# Altium schematic symbol library Pollux III.SchLib: 50 symbols
Pins are listed as number, name and electrical type; pins without a type are passive.

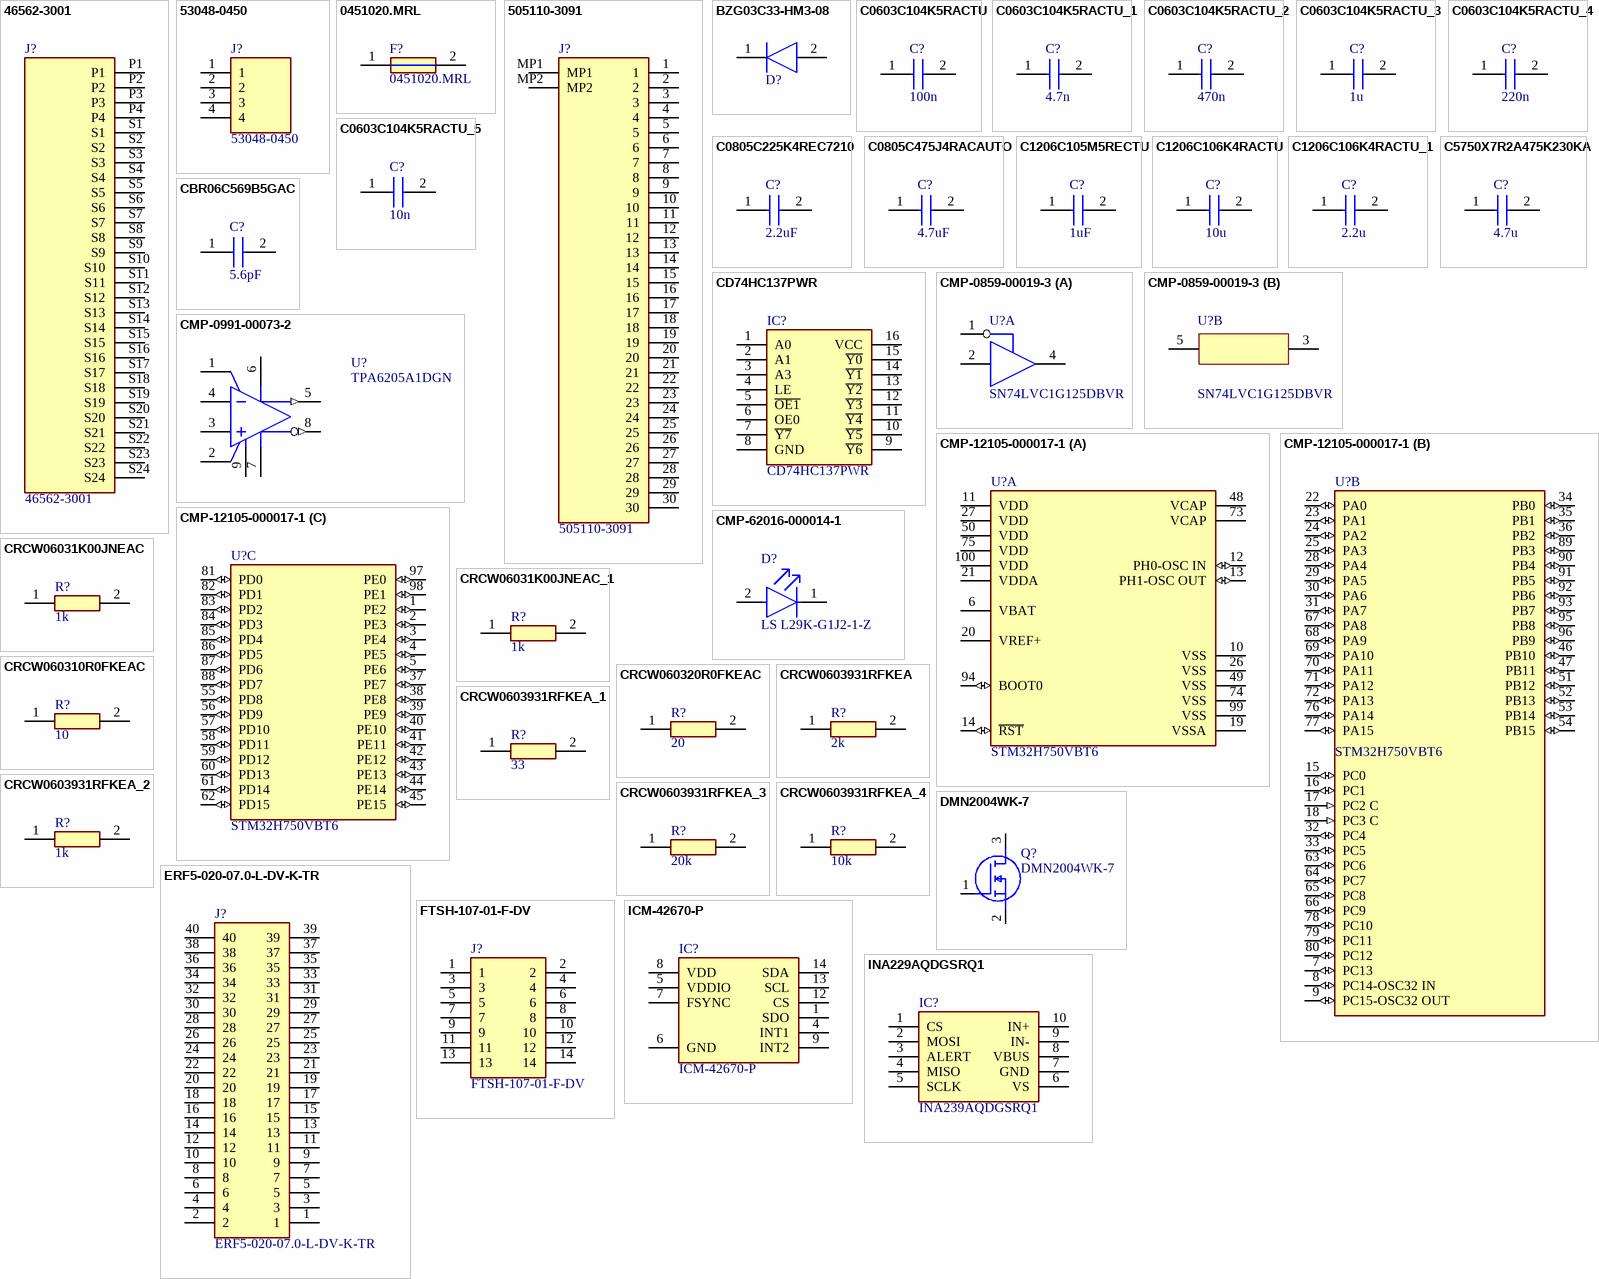
[diagram p0: symbols 46562-3001 to INA229AQDGSRQ1]

## 46562-3001
designator J?
Connector
footprint 465623001
pins: P1, P2, P3, P4, S1, S2, S3, S4, S5, S6, S7, S8, S9, S10, S11, S12, S13, S14, S15, S16, S17, S18, S19, S20, S21, S22, S23, S24

## 53048-0450
designator J?
Connector; Manufacturer_Name: Molex; Datasheet Link: https://www.molex.com/pdm_docs/sd/530480450_sd.pdf; Height: 3.5mm; Manufacturer_Part_Number: 53048-0450; Mouser Part Number: 538-53048-0450; Mouser Price/Stock: https://www.mouser.co.uk/ProductDetail/Molex/53048-0450?qs=0lSvoLzn4L%252Bhzo05ywM78Q%3D%3D
footprint SHDRRA4W35P0X125_1X4_675X550X350P
pins: 1, 2, 3, 4

## 0451020.MRL
designator F?
Fuse; Manufacturer_Name: LITTELFUSE; Datasheet Link: https://m.littelfuse.com/~/media/electronics/datasheets/fuses/littelfuse_fuse_451_453_datasheet.pdf.pdf; Height: 2.94mm; Manufacturer_Part_Number: 0451020.MRL; Mouser Part Number: 576-0451020.MRL; Mouser Price/Stock: https://www.mouser.co.uk/ProductDetail/Littelfuse/0451020MRL?qs=ZaMXuU%252B6JZZbQqgd%2F3uvYw%3D%3D; Arrow Part Number: 0451020.MRL; Arrow Price/Stock: https://www.arrow.com/en/products/0451020.mrl/littelfuse
footprint FUSC6127X294N
pins: 1, 2

## 505110-3091
designator J?
Connector; Manufacturer_Name: Molex; Datasheet Link: https://www.molex.com/pdm_docs/sd/5051103091_sd.pdf; Height: 2.1mm; Manufacturer_Part_Number: 505110-3091; Mouser Part Number: 538-505110-3091; Mouser Price/Stock: https://www.mouser.co.uk/ProductDetail/Molex/505110-3091?qs=fSIr1QPo%2F%2FSZ9fkf9Qvqqg%3D%3D
footprint 5051103091
pins: 1, 2, 3, 4, 5, 6, 7, 8, 9, 10, 11, 12, 13, 14, 15, 16, 17, 18, 19, 20, 21, 22, 23, 24, 25, 26, 27, 28, 29, 30, MP1, MP2

## BZG03C33-HM3-08
designator D?  (value not drawn)
Diode; Manufacturer_Name: Vishay; Datasheet Link: https://www.arrow.com/en/products/bzg03c33-hm3-08/vishay; Height: 2.29mm; Manufacturer_Part_Number: BZG03C33-HM3-08; Mouser Part Number: 78-BZG03C33-HM3-08; Mouser Price/Stock: https://www.mouser.co.uk/ProductDetail/Vishay-Semiconductors/BZG03C33-HM3-08?qs=j%252B1pi9TdxUbhV%2FXINkfeTw%3D%3D; Arrow Part Number: BZG03C33-HM3-08; Arrow Price/Stock: https://www.arrow.com/en/products/bzg03c33-hm3-08/vishay
footprint DIOM5127X229N
pins: 1 K, 2 A

## C0603C104K5RACTU
designator C?  value 100n  (hidden comment: C0603C104K5RACTU)
Capacitor; Manufacturer_Name: Kemet; Datasheet Link: http://www.farnell.com/datasheets/2205446.pdf; Height: 0.95mm; Manufacturer_Part_Number: C0603C104K5RACTU; Mouser Part Number: 80-C0603C104K5R; Mouser Price/Stock: https://www.mouser.co.uk/ProductDetail/KEMET/C0603C104K5RACTU?qs=l5k%252BbMnNDkkVcnZPSAaaiQ%3D%3D; Arrow Part Number: C0603C104K5RACTU; Arrow Price/Stock: https://www.arrow.com/en/products/c0603c104k5ractu/kemet-corporation; Supplier 1: Mouser; Supplier Part Number 1: 80-C0603C104K5R
footprint CAPC1608X95N
pins: 1, 2

## C0603C104K5RACTU_1
designator C?, comment value 4.7n  (hidden comment: C0603C104K5RACTU)
Capacitor; Manufacturer_Name: Kemet; Datasheet Link: http://www.farnell.com/datasheets/2205446.pdf; Height: 0.95mm; Manufacturer_Part_Number: C0603C104K5RACTU; Mouser Part Number: 80-C0603C104K5R; Mouser Price/Stock: https://www.mouser.co.uk/ProductDetail/KEMET/C0603C104K5RACTU?qs=l5k%252BbMnNDkkVcnZPSAaaiQ%3D%3D; Arrow Part Number: C0603C104K5RACTU; Arrow Price/Stock: https://www.arrow.com/en/products/c0603c104k5ractu/kemet-corporation; Supplier 1: Mouser; Supplier Part Number 1: 80-C0603C104K5R
footprint CAPC1608X95N
pins: 1, 2

## C0603C104K5RACTU_2
designator C?, comment value 470n  (hidden comment: C0603C104K5RACTU)
Capacitor; Manufacturer_Name: Kemet; Datasheet Link: http://www.farnell.com/datasheets/2205446.pdf; Height: 0.95mm; Manufacturer_Part_Number: C0603C104K5RACTU; Mouser Part Number: 80-C0603C104K5R; Mouser Price/Stock: https://www.mouser.co.uk/ProductDetail/KEMET/C0603C104K5RACTU?qs=l5k%252BbMnNDkkVcnZPSAaaiQ%3D%3D; Arrow Part Number: C0603C104K5RACTU; Arrow Price/Stock: https://www.arrow.com/en/products/c0603c104k5ractu/kemet-corporation; Supplier 1: Mouser; Supplier Part Number 1: 80-C0603C104K5R
footprint CAPC1608X95N
pins: 1, 2

## C0603C104K5RACTU_3
designator C?, comment value 1u  (hidden comment: C0603C104K5RACTU)
Capacitor; Manufacturer_Name: Kemet; Datasheet Link: http://www.farnell.com/datasheets/2205446.pdf; Height: 0.95mm; Manufacturer_Part_Number: C0603C104K5RACTU; Mouser Part Number: 80-C0603C104K5R; Mouser Price/Stock: https://www.mouser.co.uk/ProductDetail/KEMET/C0603C104K5RACTU?qs=l5k%252BbMnNDkkVcnZPSAaaiQ%3D%3D; Arrow Part Number: C0603C104K5RACTU; Arrow Price/Stock: https://www.arrow.com/en/products/c0603c104k5ractu/kemet-corporation; Supplier 1: Mouser; Supplier Part Number 1: 80-C0603C104K5R
footprint CAPC1608X95N
pins: 1, 2

## C0603C104K5RACTU_4
designator C?, comment value 220n  (hidden comment: C0603C104K5RACTU)
Capacitor; Manufacturer_Name: Kemet; Datasheet Link: http://www.farnell.com/datasheets/2205446.pdf; Height: 0.95mm; Manufacturer_Part_Number: C0603C104K5RACTU; Mouser Part Number: 80-C0603C104K5R; Mouser Price/Stock: https://www.mouser.co.uk/ProductDetail/KEMET/C0603C104K5RACTU?qs=l5k%252BbMnNDkkVcnZPSAaaiQ%3D%3D; Arrow Part Number: C0603C104K5RACTU; Arrow Price/Stock: https://www.arrow.com/en/products/c0603c104k5ractu/kemet-corporation; Supplier 1: Mouser; Supplier Part Number 1: 80-C0603C104K5R
footprint CAPC1608X95N
pins: 1, 2

## C0603C104K5RACTU_5
designator C?, comment value 10n  (hidden comment: C0603C104K5RACTU)
Capacitor; Manufacturer_Name: Kemet; Datasheet Link: http://www.farnell.com/datasheets/2205446.pdf; Height: 0.95mm; Manufacturer_Part_Number: C0603C104K5RACTU; Mouser Part Number: 80-C0603C104K5R; Mouser Price/Stock: https://www.mouser.co.uk/ProductDetail/KEMET/C0603C104K5RACTU?qs=l5k%252BbMnNDkkVcnZPSAaaiQ%3D%3D; Arrow Part Number: C0603C104K5RACTU; Arrow Price/Stock: https://www.arrow.com/en/products/c0603c104k5ractu/kemet-corporation; Supplier 1: Mouser; Supplier Part Number 1: 80-C0603C104K5R
footprint CAPC1608X95N
pins: 1, 2

## C0805C225K4REC7210
designator C?  value 2.2uF  (hidden comment: C0805C225K4REC7210)
Capacitor; Manufacturer_Name: Kemet; Datasheet Link: https://content.kemet.com/datasheets/KEM_C1090_X7R_ESD.pdf; Height: 1.4mm; Manufacturer_Part_Number: C0805C225K4REC7210; Mouser Part Number: 80-C0805C225K4RECLR; Mouser Price/Stock: https://www.mouser.co.uk/ProductDetail/KEMET/C0805C225K4REC7210?qs=55YtniHzbhCWJdUu8xFadQ%3D%3D; Supplier 1: Mouser; Supplier Part Number 1: 80-C0805C225K4RECLR
footprint CAPC2012X140N
pins: 1, 2

## C0805C475J4RACAUTO
designator C?, comment value 4.7uF  (hidden comment: C0805C475M4PACTU)
Capacitor; Manufacturer_Name: Kemet; Manufacturer_Part_Number: C0805C475J4RACAUTO; Datasheet Link: https://componentsearchengine.com/Datasheets/1/C0805C475J4RACAUTO.pdf; Height: 1.4mm; Mouser Part Number: 80-C0805C475J4RAUTO; Mouser Price/Stock: https://www.mouser.co.uk/ProductDetail/KEMET/C0805C475J4RACAUTO?qs=HXFqYaX1Q2zgZ196jUXcdQ%3D%3D; Arrow Part Number: C0805C475J4RACAUTO; Arrow Price/Stock: https://www.arrow.com/en/products/c0805c475j4racauto/kemet-corporation; Supplier 1: Mouser; Supplier Part Number 1: 80-C0805C475J4RAUTO
footprint CAPC2012X140N
pins: 1, 2

## C1206C105M5RECTU
designator C?  value 1uF  (hidden comment: C1206C105M5RECTU)
Capacitor; Manufacturer_Name: Kemet; Datasheet Link: https://content.kemet.com/datasheets/KEM_C1090_X7R_ESD.pdf; Height: 1.3mm; Manufacturer_Part_Number: C1206C105M5RECTU; Mouser Part Number: 80-C1206C105M5RECTU; Mouser Price/Stock: https://www.mouser.co.uk/ProductDetail/KEMET/C1206C105M5RECTU?qs=55YtniHzbhBh39CxZCw85g%3D%3D; Arrow Part Number: C1206C105M5RECTU; Arrow Price/Stock: https://www.arrow.com/en/products/c1206c105m5rectu/kemet-corporation; Supplier 1: Mouser; Supplier Part Number 1: 80-C1206C105M5RECTU
footprint CAPC3216X130N
pins: 1, 2

## C1206C106K4RACTU
designator C?  value 10u  (hidden comment: C1206C106K4RACTU)
Capacitor; Manufacturer_Name: Kemet; Datasheet Link: https://content.kemet.com/datasheets/KEM_C1002_X7R_SMD.pdf; Manufacturer_Part_Number: C1206C106K4RACTU; Mouser Part Number: 80-C1206C106K4R; Mouser Price/Stock: https://www.mouser.co.uk/ProductDetail/KEMET/C1206C106K4RACTU?qs=guDyKOyRtV0mxqxQedB7kA%3D%3D; Arrow Part Number: C1206C106K4RACTU; Arrow Price/Stock: https://www.arrow.com/en/products/c1206c106k4ractu/kemet-corporation
footprint C1206
pins: 1, 2

## C1206C106K4RACTU_1
designator C?, comment value 2.2u  (hidden comment: C1206C106K4RACTU)
Capacitor; Manufacturer_Name: Kemet; Datasheet Link: https://content.kemet.com/datasheets/KEM_C1002_X7R_SMD.pdf; Manufacturer_Part_Number: C1206C106K4RACTU; Mouser Part Number: 80-C1206C106K4R; Mouser Price/Stock: https://www.mouser.co.uk/ProductDetail/KEMET/C1206C106K4RACTU?qs=guDyKOyRtV0mxqxQedB7kA%3D%3D; Arrow Part Number: C1206C106K4RACTU; Arrow Price/Stock: https://www.arrow.com/en/products/c1206c106k4ractu/kemet-corporation
footprint C1206
pins: 1, 2

## C5750X7R2A475K230KA
designator C?, comment value 4.7u  (hidden comment: C5750JB2A475M230KA)
Capacitor; Manufacturer_Name: TDK; Manufacturer_Part_Number: C5750X7R2A475K230KA; Datasheet Link: https://product.tdk.com/de/search/capacitor/ceramic/mlcc/info?part_no=C5750X7R2A475K230KA; Height: 3.1mm; Mouser Part Number: 810-C5750X7R2A475K; Mouser Price/Stock: https://www.mouser.co.uk/ProductDetail/TDK/C5750X7R2A475K230KA?qs=NRhsANhppD88FUXESCqIJQ%3D%3D; Arrow Part Number: C5750X7R2A475K230KA; Arrow Price/Stock: https://www.arrow.com/en/products/c5750x7r2a475k230ka/tdk; Supplier 1: Mouser; Supplier Part Number 1: 810-C5750JB2A475M23A
footprint CAPC5750X310N
pins: 1, 2

## CBR06C569B5GAC
designator C?  value 5.6pF  (hidden comment: CBR06C569B5GAC)
Capacitor; Manufacturer_Name: Kemet; Datasheet Link: http://www.kemet.com/Lists/ProductCatalog/Attachments/490/KEM_C1030_CBR_SMD.pdf; Height: 0.87mm; Manufacturer_Part_Number: CBR06C569B5GAC; Mouser Part Number: 80-CBR06C569B5GAC; Mouser Price/Stock: https://www.mouser.co.uk/ProductDetail/KEMET/CBR06C569B5GAC/?qs=8sjaHP9aayqGSwkvsyWeEw%3D%3D; Arrow Part Number: CBR06C569B5GAC; Arrow Price/Stock: https://www.arrow.com/en/products/cbr06c569b5gac/kemet-corporation; Supplier 1: Mouser; Supplier Part Number 1: 80-CBR06C569B5GAC
footprint CAPC1608X87N
pins: 1, 2

## CD74HC137PWR
designator IC?
Integrated Circuit; Manufacturer_Name: Texas Instruments; Datasheet Link: http://www.ti.com/lit/gpn/cd74hc137; Height: 1.2mm; Manufacturer_Part_Number: CD74HC137PWR; Mouser Part Number: 595-CD74HC137PWR; Mouser Price/Stock: https://www.mouser.co.uk/ProductDetail/Texas-Instruments/CD74HC137PWR/?qs=YxwvVplHM%2Fm8ZkoHTCdntQ%3D%3D; Arrow Part Number: CD74HC137PWR; Arrow Price/Stock: https://www.arrow.com/en/products/cd74hc137pwr/texas-instruments
footprint SOP65P640X120-16N
pins: 1 A0, 2 A1, 3 A3, 4 LE, 5 ~{OE1}, 6 OE0, 7 ~{Y7}, 8 GND, 9 ~{Y6}, 10 ~{Y5}, 11 ~{Y4}, 12 ~{Y3}, 13 ~{Y2}, 14 ~{Y1}, 15 ~{Y0}, 16 VCC

## CMP-0859-00019-3
designator U?, comment SN74LVC1G125DBVR
Single Bus Buffer Gate With 3-State Outputs, DBV0005A, LARGE T&R; Manufacturer: Texas Instruments; VCC(Min)(V): 1.65; Sub-Family: Non-Inverting Buffer/Driver; tpd @ Nom Voltage(Max)(ns): 9,5.5,4.5,4; Input Type: CMOS/TTL; ICC @ Nom Voltage(Max)(mA): 0.01; Schmitt Trigger: No; Voltage(Nom)(V): 1.8,2.5,3.3,5; F @ Nom Voltage(Max)(Mhz): 150; Output Drive (IOL/IOH)(Max)(mA): 32/-32; 3-State Output: Yes; Output Type: CMOS; Bits(#): 1; Rating: Catalog; Technology Family: LVC; Logic: True; VCC(Max)(V): 5.5; PackageReference: DBV0005A; DatasheetVersion: SCES223T; Generic Part Number: SN74LVC1G125; Operating Temperature Range(C): -40 to 125,-40 to 85
footprint DBV0005A_M (SOT23, 5-Leads, Body 3.05x1.75mm, Pitch 0.95mm, IPC Low Density)
footprint DBV0005A_L (SOT23, 5-Leads, Body 3.05x1.75mm, Pitch 0.95mm, IPC High Density)
footprint DBV0005A_N (SOT23, 5-Leads, Body 3.05x1.75mm, Pitch 0.95mm, IPC Medium Density)
part A pins: 1 ~{OE}, 2 A, 4 Y (hiz)
part B pins: 3 GND (power), 5 VCC (power)

## CMP-0991-00073-2
designator U?, comment TPA6205A1DGN
1.25-W Mono, Fully Differential, Class-AB Audio Amplifier with 1.8 V Compatible Shutdown Voltage, -40 to 85 degC, 8-pin SOP (DGN8), Green (RoHS & no Sb/Br); Manufacturer: Texas Instruments; PSRR(dB): -90; Output Power(W): 1.25; Supply Min(Min)(Volt): 2.5; SubFamily: Dynamic Speaker; Supply Max(Max)(Volt): 5.5; DatasheetVersion: SLOS490B; ComponentLink2Description: Datasheet; ComponentLink1Description: Manufacturer URL; ComponentLink3URL: http://www.ti.com/litv/pdf/mpds046e; Eco-Plan: Green (RoHS & no Sb/Br); Speaker Amp Type: Class-AB; Code_JEDEC: MO-187; ComponentLink1URL: http://www.ti.com/; PackageVersion: 4073271/F, 05/2011; Speaker Channels: Mono; PartNumber: TPA6205A1DGN; PackageDescription: 8-Pin Plastic Small Outline, Body 3 x 3 mm, Pitch 0.65 mm; Mounting Technology: Surface Mount; ComponentLink3Description: Package Specification; ComponentLink2URL: http://www.ti.com/general/docs/lit/getliterature.tsp?genericPartNumber=TPA6205A1&fileType=pdf; PackageReference: DGN0008D
footprint DGN0008D_N (TSOP, 8-Leads, Body 3.1x3.1mm, Pitch 0.65mm, Thermal Pad 1.89x1.57mm, IPC Medium Density)
footprint DGN0008D_L (TSOP, 8-Leads, Body 3.1x3.1mm, Pitch 0.65mm, Thermal Pad 1.89x1.57mm, IPC High Density)
footprint DGN0008D_M (TSOP, 8-Leads, Body 3.1x3.1mm, Pitch 0.65mm, Thermal Pad 1.65x1.51mm, IPC Low Density)
pins: 1 ~{SHUTDOWN} "Shutdown terminal (active low logic)", 2 BYPASS "Mid-supply voltage. Adding a bypass capacitor improves PSRR.", 3 IN+ "Positive differential input", 4 IN- "Negative differential input", 5 VO+ (out) "Positive BTL output", 6 VDD (power) "Supply voltage terminal", 7 GND (power) "High-current ground", 8 VO- (out) "Negative BTL output", 9 EP (power) "Connect to ground. Thermal pad must be soldered down in all applications to properly secure device on the PCB."

## CMP-12105-000017-1
designator U?, comment STM32H750VBT6
IC MCU 32BIT 128KB FLASH 100LQFP; Manufacturer: STMicroelectronics; Number Of Uart Channels: 9; Number Of I/Os: 82; Max Junction Temp: +125°C; Data Bus Width: 32bits; Ram Size: 1MBytes; Min Supply Voltage: 1.62V; Number Of Spi Channels: 6; Number Of Adc Channels: 36; Max Supply Voltage: 3.6V; Standoff Height: 0.05mm; Interface: I2C,SPI,UART,USART,CAN,USB,LIN,IrDA,Ethernet,I2S,Other; Number Of A/D Converters: 3; Number Of I2C Channels: 4; Memory Size: 128KBytes; Frequency: 480MHz; Number Of Timers/Counters: 20; Number Of Ethernet Channels: 1; Core Architecture: ARM Cortex-M7; Number Of Usb Channels: 2; Number Of Pwm Channels: 42; Ambient Temperature Range High: +85°C; Temperature: -40°C to +125°C; ComponentLink2URL: https://www.st.com/resource/en/datasheet/stm32h750vb.pdf; Device Class L2: Embedded Processors and Controllers; Temperature Range Low: -40°C; Octopart: https://octopart.com/stm32h750vbt6-stmicroelectronics-94048547; Category: IC; Manufacturer Part Number: STM32H750VBT6; Height: 1.6mm; Lead Free: Yes; Device Class L1: Integrated Circuits (ICs); Digikey Description: IC MCU 32BIT 128KB FLASH 100LQFP; RoHS: TRUE; Ambient Temperature Range Low: -40°C; Device Class L3: Microcontrollers; ComponentLink2Description: Datasheet; Mouser Description: MCU 32-Bit STM32H750VB ARM Cortex M7 RISC 128KB Flash 1.8V/2.5V/3.3V 100-Pin LQFP Tray; Number Of Cores: 1; Automotive: No; Memory Type: FLASH; Package: LQFP100-1L; Temperature Range High: +125°C
footprint FP-LQFP100-1L-MFG
footprint FP-LQFP100-1L-IPC_C
footprint FP-LQFP100-1L-IPC_B
footprint FP-LQFP100-1L-IPC_A
part A pins: 6 VBAT (power), 10 VSS (power), 11 VDD (power), 12 PH0-OSC IN (io), 13 PH1-OSC OUT (io), 14 ~{RST} (io), 19 VSSA (power), 20 VREF+ (power), 21 VDDA (power), 26 VSS (power), 27 VDD (power), 48 VCAP (power), 49 VSS (power), 50 VDD (power), 73 VCAP (power), 74 VSS (power), 75 VDD (power), 94 BOOT0 (io), 99 VSS (power), 100 VDD (power)
part B pins: 7 PC13 (io), 8 PC14-OSC32 IN (io), 9 PC15-OSC32 OUT (io), 15 PC0 (io), 16 PC1 (io), 17 PC2 C (in), 18 PC3 C (in), 22 PA0 (io), 23 PA1 (io), 24 PA2 (io), 25 PA3 (io), 28 PA4 (io), 29 PA5 (io), 30 PA6 (io), 31 PA7 (io), 32 PC4 (io), 33 PC5 (io), 34 PB0 (io), 35 PB1 (io), 36 PB2 (io), 46 PB10 (io), 47 PB11 (io), 51 PB12 (io), 52 PB13 (io), 53 PB14 (io), 54 PB15 (io), 63 PC6 (io), 64 PC7 (io), 65 PC8 (io), 66 PC9 (io), 67 PA8 (io), 68 PA9 (io), 69 PA10 (io), 70 PA11 (io), 71 PA12 (io), 72 PA13 (io), 76 PA14 (io), 77 PA15 (io), 78 PC10 (io), 79 PC11 (io), 80 PC12 (io), 89 PB3 (io), 90 PB4 (io), 91 PB5 (io), 92 PB6 (io), 93 PB7 (io), 95 PB8 (io), 96 PB9 (io)
part C pins: 1 PE2 (io), 2 PE3 (io), 3 PE4 (io), 4 PE5 (io), 5 PE6 (io), 37 PE7 (io), 38 PE8 (io), 39 PE9 (io), 40 PE10 (io), 41 PE11 (io), 42 PE12 (io), 43 PE13 (io), 44 PE14 (io), 45 PE15 (io), 55 PD8 (io), 56 PD9 (io), 57 PD10 (io), 58 PD11 (io), 59 PD12 (io), 60 PD13 (io), 61 PD14 (io), 62 PD15 (io), 81 PD0 (io), 82 PD1 (io), 83 PD2 (io), 84 PD3 (io), 85 PD4 (io), 86 PD5 (io), 87 PD6 (io), 88 PD7 (io), 97 PE0 (io), 98 PE1 (io)

## CMP-62016-000014-1
designator D?, comment LS L29K-G1J2-1-Z
LED RED DIFFUSED 0603 SMD; Manufacturer: Osram Opto; Luminous Flux: 0.0081/0.0254lm; Forward Voltage: 1.8V; Luminous Intensity: 1.8-2.24/5.6-7.1mcd; Reverse Voltage: 12V; Peak Emmision Wavelength: 643nm; Max Junction Temp: +110°C; Viewing Angle: 160°; Wavelength: 630nm; Forward Current: 2mA; Led Orientation: Top View; Category: Diode; Temperature Range High: +100°C; Automotive: No; Temperature: -40°C to +100°C; Device Class L3: unset; Mouser Description: LED Uni-Color Red 643nm Automotive 2-Pin SMD T/R; Manufacturer Part Number: LS L29K-G1J2-1-Z; ComponentLink2Description: Datasheet; Lead Free: Yes; Device Class L2: LEDs; ComponentLink2URL: https://dammedia.osram.info/media/resource/hires/osram-dam-5662679/LS%20L29K_EN.pdf; Temperature Range Low: -40°C; RoHS: TRUE; Digikey Description: LED RED DIFFUSED 0603 SMD; Colour: Red; Device Class L1: Optoelectronics; Package: LS_L29K; Octopart: https://octopart.com/ls+l29k-g1j2-1-z-osram+opto-31093939; Height: 0.67mm
footprint FP-LS_L29K-MFG
pins: 1 C, 2 A

## CRCW06031K00JNEAC
designator R?  value 1k  (hidden comment: CRCW06031K00JNEAC)
Resistor; Manufacturer_Name: Vishay; Datasheet Link: http://www.vishay.com/docs/28773/crcwce3.pdf; Height: 0.55mm; Manufacturer_Part_Number: CRCW06031K00JNEAC; Mouser Part Number: 71-CRCW06031K00JNEAC; Mouser Price/Stock: https://www.mouser.co.uk/ProductDetail/Vishay-Dale/CRCW06031K00JNEAC?qs=E3Y5ESvWgWPM5t3DlmyFHQ%3D%3D; Arrow Part Number: CRCW06031K00JNEAC; Arrow Price/Stock: https://www.arrow.com/en/products/crcw06031k00jneac/vishay?region=nac
footprint RESC1608X55N
pins: 1, 2

## CRCW06031K00JNEAC_1
designator R?, comment value 1k  (hidden comment: CRCW060349K9FKEAC)
Resistor; Manufacturer_Name: Vishay; Manufacturer_Part_Number: CRCW06031K00JNEAC; Datasheet Link: http://www.vishay.com/docs/28773/crcwce3.pdf; Height: 0.55mm; Mouser Part Number: 71-CRCW06031K00JNEAC; Mouser Price/Stock: https://www.mouser.co.uk/ProductDetail/Vishay-Dale/CRCW06031K00JNEAC?qs=E3Y5ESvWgWPM5t3DlmyFHQ%3D%3D; Arrow Part Number: CRCW06031K00JNEAC; Arrow Price/Stock: https://www.arrow.com/en/products/crcw06031k00jneac/vishay?region=nac
footprint RESC1608X55N
pins: 1, 2

## CRCW060310R0FKEAC
designator R?, comment value 10  (hidden comment: CRCW060310R0JNEAC)
Resistor; Manufacturer_Name: Vishay; Manufacturer_Part_Number: CRCW060310R0FKEAC; Datasheet Link: https://ms.componentsearchengine.com/Datasheets/1/CRCW060310R0FKEAC.pdf; Height: 0.55mm; Mouser Part Number: 71-CRCW060310R0FKEAC; Mouser Price/Stock: https://www.mouser.co.uk/ProductDetail/Vishay-Dale/CRCW060310R0FKEAC?qs=E3Y5ESvWgWP5XvJ40P8QAg%3D%3D; Arrow Part Number: CRCW060310R0FKEAC; Arrow Price/Stock: https://www.arrow.com/en/products/crcw060310r0fkeac/vishay; Supplier 1: Distrelec; Supplier Part Number 1: 16059657
footprint RESC1608X55N
pins: 1, 2

## CRCW060320R0FKEAC
designator R?  value 20  (hidden comment: CRCW060320R0FKEAC)
Resistor; Manufacturer_Name: Vishay; Datasheet Link: http://www.vishay.com/docs/28773/crcwce3.pdf; Height: 0.55mm; Manufacturer_Part_Number: CRCW060320R0FKEAC; Mouser Part Number: 71-CRCW060320R0FKEAC; Mouser Price/Stock: https://www.mouser.com/Search/Refine.aspx?Keyword=71-CRCW060320R0FKEAC; Arrow Part Number: CRCW060320R0FKEAC; Arrow Price/Stock: https://www.arrow.com/en/products/crcw060320r0fkeac/vishay; Supplier 1: Mouser; Supplier Part Number 1: 71-CRCW060320R0FKEAC
footprint RESC1608X55N
pins: 1, 2

## CRCW0603931RFKEA
designator R?, comment value 2k  (hidden comment: CRCW06032K00JNEB)
Resistor; Manufacturer_Name: Vishay; Manufacturer_Part_Number: CRCW0603787RFKEA; Datasheet Link: http://www.vishay.com/docs/20035/dcrcwe3.pdf; Height: 0.5mm; Supplier 1: Mouser; Supplier Part Number 1: 71-CRCW06032K00JNEB
footprint RESC1608X50N
pins: 1, 2

## CRCW0603931RFKEA_1
designator R?, comment value 33  (hidden comment: CRCW06032K00JNEB)
Resistor; Manufacturer_Name: Vishay; Manufacturer_Part_Number: CRCW0603787RFKEA; Datasheet Link: http://www.vishay.com/docs/20035/dcrcwe3.pdf; Height: 0.5mm; Supplier 1: Mouser; Supplier Part Number 1: 71-CRCW06032K00JNEB
footprint RESC1608X50N
pins: 1, 2

## CRCW0603931RFKEA_2
designator R?, comment value 1k  (hidden comment: CRCW06032K00JNEB)
Resistor; Manufacturer_Name: Vishay; Manufacturer_Part_Number: CRCW0603787RFKEA; Datasheet Link: http://www.vishay.com/docs/20035/dcrcwe3.pdf; Height: 0.5mm; Supplier 1: Mouser; Supplier Part Number 1: 71-CRCW06032K00JNEB
footprint RESC1608X50N
pins: 1, 2

## CRCW0603931RFKEA_3
designator R?, comment value 20k  (hidden comment: CRCW06032K00JNEB)
Resistor; Manufacturer_Name: Vishay; Manufacturer_Part_Number: CRCW0603787RFKEA; Datasheet Link: http://www.vishay.com/docs/20035/dcrcwe3.pdf; Height: 0.5mm; Supplier 1: Mouser; Supplier Part Number 1: 71-CRCW06032K00JNEB
footprint RESC1608X50N
pins: 1, 2

## CRCW0603931RFKEA_4
designator R?, comment value 10k  (hidden comment: CRCW06032K00JNEB)
Resistor; Manufacturer_Name: Vishay; Manufacturer_Part_Number: CRCW0603787RFKEA; Datasheet Link: http://www.vishay.com/docs/20035/dcrcwe3.pdf; Height: 0.5mm; Supplier 1: Mouser; Supplier Part Number 1: 71-CRCW06032K00JNEB
footprint RESC1608X50N
pins: 1, 2

## DMN2004WK-7
designator Q?
MOSFET (N-Channel); Manufacturer_Name: Diodes Inc.; Datasheet Link: https://www.arrow.com/en/products/dmn2004wk-7/diodes-incorporated; Height: 1.1mm; Manufacturer_Part_Number: DMN2004WK-7; Mouser Part Number: 621-DMN2004WK-7; Mouser Price/Stock: https://www.mouser.co.uk/ProductDetail/Diodes-Incorporated/DMN2004WK-7?qs=mQbszxtPdlNeJRFooqJmcQ%3D%3D; Arrow Part Number: DMN2004WK-7; Arrow Price/Stock: null?region=asia
footprint SOT65P210X110-3N
pins: 1 G, 2 S, 3 D

## ERF5-020-07.0-L-DV-K-TR
designator J?
Connector; Manufacturer_Name: SAMTEC; Datasheet Link: http://suddendocs.samtec.com/prints/erf5-xxx-xx.x-x-dv-xx-tr-mkt.pdf; Manufacturer_Part_Number: ERF5-020-07.0-L-DV-K-TR; Mouser Part Number: 200-ERF5020070LDVKTR; Mouser Price/Stock: https://www.mouser.co.uk/ProductDetail/Samtec/ERF5-020-070-L-DV-K-TR?qs=PB6%2FjmICvI2cw95I39aPSA%3D%3D; Arrow Part Number: ERF5-020-07.0-L-DV-K-TR; Arrow Price/Stock: https://www.arrow.com/en/products/erf5-020-07.0-l-dv-k-tr/samtec
footprint ERF5-020-XX.X-Y-DV-K-TR
pins: 1, 2, 3, 4, 5, 6, 7, 8, 9, 10, 11, 12, 13, 14, 15, 16, 17, 18, 19, 20, 21, 22, 23, 24, 25, 26, 27, 28, 29, 30, 31, 32, 33, 34, 35, 36, 37, 38, 39, 40

## FTSH-107-01-F-DV
designator J?
Connector; Manufacturer_Name: SAMTEC; Datasheet Link: http://suddendocs.samtec.com/prints/ftsh-1xx-xx-xxx-dv-xxx-xxx-mkt.pdf; Manufacturer_Part_Number: FTSH-107-01-F-DV; Mouser Part Number: 200-FTSH10701FDV; Mouser Price/Stock: https://www.mouser.co.uk/ProductDetail/Samtec/FTSH-107-01-F-DV?qs=0lQeLiL1qyalhkvT7SJ4Kw%3D%3D; Arrow Part Number: FTSH-107-01-F-DV; Arrow Price/Stock: https://www.arrow.com/en/products/ftsh-107-01-f-dv/samtec; Supplier 1: Mouser; Supplier Part Number 1: 200-FTSH10701FDV
footprint FTSH-107-XX-YYY-DV
pins: 1, 2, 3, 4, 5, 6, 7, 8, 9, 10, 11, 12, 13, 14

## ICM-42670-P
designator IC?
Integrated Circuit; Manufacturer_Name: TDK; Datasheet Link: https://3cfeqx1hf82y3xcoull08ihx-wpengine.netdna-ssl.com/wp-content/uploads/2021/07/DS-000451-ICM-42670-P-v1.0.pdf; Manufacturer_Part_Number: ICM-42670-P; Mouser Part Number: 410-ICM-42670-P; Mouser Price/Stock: https://www.mouser.co.uk/ProductDetail/TDK-InvenSense/ICM-42670-P?qs=iLbezkQI%252BsgK8sMF5V7fQQ%3D%3D; Arrow Part Number: ICM-42670-P; Arrow Price/Stock: https://www.arrow.com/en/products/icm-42670-p/invensense?region=nac
footprint ICM42670P
pins: 1 SDO, 4 INT1, 5 VDDIO, 6 GND, 7 FSYNC, 8 VDD, 9 INT2, 12 CS, 13 SCL, 14 SDA

## INA229AQDGSRQ1
designator IC?, comment INA239AQDGSRQ1
Integrated Circuit; Manufacturer_Name: Texas Instruments; Manufacturer_Part_Number: INA229AQDGSRQ1; Datasheet Link: https://www.ti.com/lit/ds/symlink/ina229-q1.pdf?ts=1625593362739; Height: 1.1mm; Mouser Part Number: 595-INA229AQDGSRQ1; Mouser Price/Stock: https://www.mouser.co.uk/ProductDetail/Texas-Instruments/INA229AQDGSRQ1?qs=QNEnbhJQKvYTGkxSAfXBrQ%3D%3D; Arrow Part Number: INA229AQDGSRQ1; Arrow Price/Stock: https://www.arrow.com/en/products/ina229aqdgsrq1/texas-instruments?region=nac
footprint SOP50P490X110-10N
pins: 1 CS, 2 MOSI, 3 ALERT, 4 MISO, 5 SCLK, 6 VS, 7 GND, 8 VBUS, 9 IN-, 10 IN+

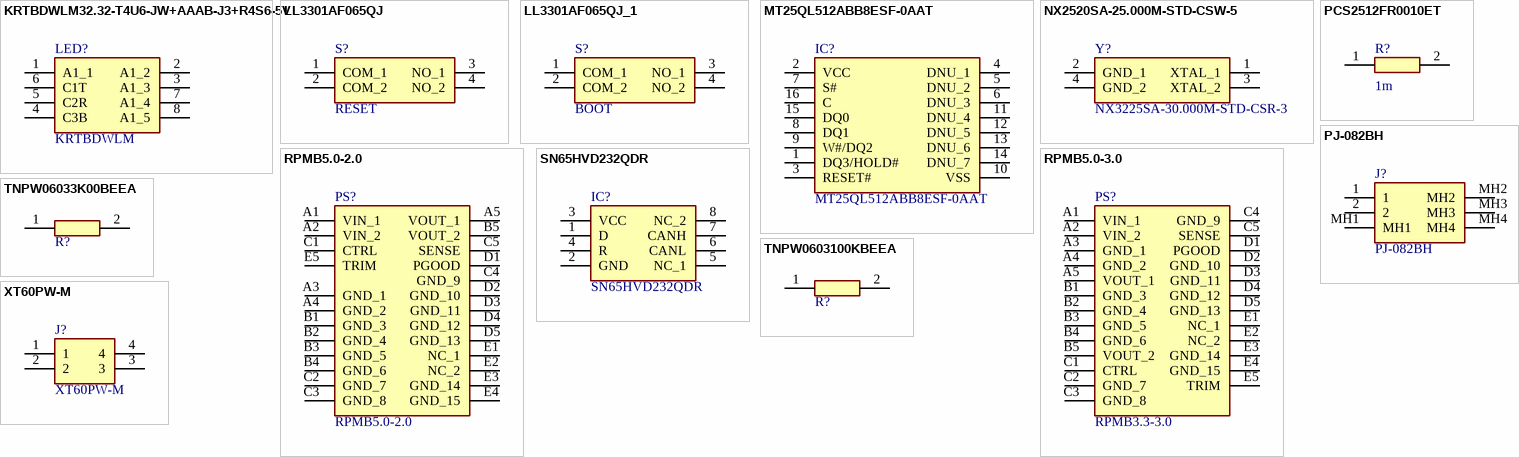
[diagram p1: symbols KRTBDWLM32.32-T4U6-JW+AAAB-J3+R4S6-5V to XT60PW-M]

## KRTBDWLM32.32-T4U6-JW+AAAB-J3+R4S6-5V
designator LED?, comment KRTBDWLM
LED; Manufacturer_Name: OSRAM; Manufacturer_Part_Number: KRTBDWLM32.32-T4U6-JW+AAAB-J3+R4S6-5V; Datasheet Link: https://dammedia.osram.info/media/resource/hires/osram-dam-12226989/KRTBDWLM32.32_EN.pdf; Height: 0.7mm; Mouser Part Number: 720-KRTBDWLM323A7940; Mouser Price/Stock: https://www.mouser.co.uk/ProductDetail/OSRAM-Opto-Semiconductors/KRTBDWLM3232-T4U6-JW%2bAAAB-J3%2bR4S6-5V?qs=DPoM0jnrROWJ%2F8aeLsBacQ%3D%3D; Supplier 1: Mouser; Supplier Part Number 1: 720-KRTBDWLM323A7940
footprint KRTBDWLM3232T4U6JWAAABJ3R4S65V
pins: 1 A1_1, 2 A1_2, 3 A1_3, 4 C3B, 5 C2R, 6 C1T, 7 A1_4, 8 A1_5

## LL3301AF065QJ
designator S?, comment RESET
Switch; Manufacturer_Name: E-Switch; Manufacturer_Part_Number: LL3301AF065QJ; Datasheet Link: https://media.digikey.com/pdf/Data%20Sheets/E-Switch%20PDFs/LL3301AF065QJ.pdf; Height: 7.3mm; Mouser Part Number: 612-LL3301AF065QJ; Mouser Price/Stock: https://www.mouser.co.uk/ProductDetail/E-Switch/LL3301AF065QJ?qs=QtyuwXswaQi68RkbBY57jQ%3D%3D; Supplier 1: Mouser; Supplier Part Number 1: 612-LL3301AF065QJ
footprint LL3301FF065QJ
pins: 1 COM_1, 2 COM_2, 3 NO_1, 4 NO_2

## LL3301AF065QJ_1
designator S?, comment BOOT
Switch; Manufacturer_Name: E-Switch; Manufacturer_Part_Number: LL3301AF065QJ; Datasheet Link: https://media.digikey.com/pdf/Data%20Sheets/E-Switch%20PDFs/LL3301AF065QJ.pdf; Height: 7.3mm; Mouser Part Number: 612-LL3301AF065QJ; Mouser Price/Stock: https://www.mouser.co.uk/ProductDetail/E-Switch/LL3301AF065QJ?qs=QtyuwXswaQi68RkbBY57jQ%3D%3D; Supplier 1: Mouser; Supplier Part Number 1: 612-LL3301AF065QJ
footprint LL3301FF065QJ
pins: 1 COM_1, 2 COM_2, 3 NO_1, 4 NO_2

## MT25QL512ABB8ESF-0AAT
designator IC?
Integrated Circuit; Manufacturer_Name: Micron; Datasheet Link: https://media-www.micron.com/-/media/client/global/documents/products/data-sheet/nor-flash/serial-nor/mt25q/die-rev-b/mt25q_qlkt_l_512_abb_0.pdf?rev=0ef0faa5f7b645d7bc11c30bfd27505b; Height: 2.65mm; Manufacturer_Part_Number: MT25QL512ABB8ESF-0AAT; Mouser Part Number: 340-285789-TRAY; Mouser Price/Stock: https://www.mouser.co.uk/ProductDetail/Micron/MT25QL512ABB8ESF-0AAT?qs=rrS6PyfT74da2PZ8DoLIJg%3D%3D; Arrow Part Number: MT25QL512ABB8ESF-0AAT; Arrow Price/Stock: https://www.arrow.com/en/products/mt25ql512abb8esf-0aat/micron-technology; Supplier 1: Mouser; Supplier Part Number 1: 340-285789-TRAY
footprint SOIC127P1032X265-16N
pins: 1 DQ3/HOLD#, 2 VCC, 3 RESET#, 4 DNU_1, 5 DNU_2, 6 DNU_3, 7 S#, 8 DQ1, 9 W#/DQ2, 10 VSS, 11 DNU_4, 12 DNU_5, 13 DNU_6, 14 DNU_7, 15 DQ0, 16 C

## NX2520SA-25.000M-STD-CSW-5
designator Y?, comment NX3225SA-30.000M-STD-CSR-3
Crystal or Oscillator; Manufacturer_Name: NDK; Manufacturer_Part_Number: NX2520SA-25.000M-STD-CSW-5; Datasheet Link: https://kr.mouser.com/datasheet/2/905/ndk_08142018_NX2520SA-19.200000MHZ-NBG1-1389014.pdf; Height: 0.55mm; Mouser Part Number: 344-NX2520SA25MSTSW5; Mouser Price/Stock: https://www.mouser.co.uk/ProductDetail/NDK/NX2520SA-25000M-STD-CSW-5?qs=w%2Fv1CP2dgqoYJPVY2dD4UA%3D%3D; Supplier 1: Mouser; Supplier Part Number 1: 344-NX3225SA30MSTSR3
footprint NX2520SA192MHzEXS00ACS05400
pins: 1 XTAL_1, 2 GND_1, 3 XTAL_2, 4 GND_2

## PCS2512FR0010ET
designator R?  value 1m  (hidden comment: PCS2512FR0010ET)
Resistor; Manufacturer_Name: Ohmite; Datasheet Link: https://www.mouser.com/datasheet/2/303/res_pcs-1665423.pdf; Height: 0.904mm; Manufacturer_Part_Number: PCS2512FR0010ET; Mouser Part Number: 588-PCS2512FR0010ET; Mouser Price/Stock: https://www.mouser.co.uk/ProductDetail/Ohmite/PCS2512FR0010ET?qs=Zz7%252BYVVL6bExv9xLWZznUg%3D%3D
footprint RESC6430X90N
pins: 1, 2

## PJ-082BH
designator J?
Connector; Manufacturer_Name: CUI Inc.; Datasheet Link: https://www.mouser.co.uk/datasheet/2/670/pj_082bh-1779031.pdf; Height: 10.2mm; Manufacturer_Part_Number: PJ-082BH; Mouser Part Number: 490-PJ-082BH; Mouser Price/Stock: https://www.mouser.co.uk/ProductDetail/CUI-Devices/PJ-082BH?qs=WyjlAZoYn52P2Lo8hPB1tg%3D%3D; Arrow Part Number: PJ-082BH; Arrow Price/Stock: https://www.arrow.com/en/products/pj-082bh/cui-devices?region=nac; Supplier 1: Mouser; Supplier Part Number 1: 490-PJ-082BH
footprint PJ082BH
pins: 1, 2, MH1, MH2, MH3, MH4

## RPMB5.0-2.0
designator PS?
Power Supply; Manufacturer_Name: RECOM Power; Datasheet Link: https://g.recomcdn.com/media/Datasheet/pdf/.f_GMSoRX/.t173c310db6f6fe5108a0/Datasheet-322/RPMB-2_0.pdf; Height: 4mm; Manufacturer_Part_Number: RPMB5.0-2.0
footprint RPMB5020
pins: A1 VIN_1, A2 VIN_2, A3 GND_1, A4 GND_2, A5 VOUT_1, B1 GND_3, B2 GND_4, B3 GND_5, B4 GND_6, B5 VOUT_2, C1 CTRL, C2 GND_7, C3 GND_8, C4 GND_9, C5 SENSE, D1 PGOOD, D2 GND_10, D3 GND_11, D4 GND_12, D5 GND_13, E1 NC_1, E2 NC_2, E3 GND_14, E4 GND_15, E5 TRIM

## RPMB5.0-3.0
designator PS?, comment RPMB3.3-3.0
Power Supply; Manufacturer_Name: RECOM Power; Manufacturer_Part_Number: RPMB5.0-3.0; Datasheet Link: https://componentsearchengine.com/Datasheets/1/RPMB5.0-3.0.pdf; Height: 3.75mm; Mouser Part Number: 919-RPMB5.0-3.0; Mouser Price/Stock: https://www.mouser.co.uk/ProductDetail/RECOM-Power/RPMB50-30?qs=wnTfsH77Xs7FdqATAuFwWQ%3D%3D
footprint RPMB5030
pins: A1 VIN_1, A2 VIN_2, A3 GND_1, A4 GND_2, A5 VOUT_1, B1 GND_3, B2 GND_4, B3 GND_5, B4 GND_6, B5 VOUT_2, C1 CTRL, C2 GND_7, C3 GND_8, C4 GND_9, C5 SENSE, D1 PGOOD, D2 GND_10, D3 GND_11, D4 GND_12, D5 GND_13, E1 NC_1, E2 NC_2, E3 GND_14, E4 GND_15, E5 TRIM

## SN65HVD232QDR
designator IC?
Integrated Circuit; Manufacturer_Name: Texas Instruments; Datasheet Link: http://www.ti.com/lit/gpn/SN65HVD232Q; Height: 1.75mm; Manufacturer_Part_Number: SN65HVD232QDR; Mouser Part Number: 595-SN65HVD232QDR; Mouser Price/Stock: https://www.mouser.co.uk/ProductDetail/Texas-Instruments/SN65HVD232QDR?qs=QViXGNcIEAuDpfsGPShang%3D%3D; Arrow Part Number: SN65HVD232QDR; Arrow Price/Stock: https://www.arrow.com/en/products/sn65hvd232qdr/texas-instruments?region=nac
footprint SOIC127P600X175-8N
pins: 1 D, 2 GND, 3 VCC, 4 R, 5 NC_1, 6 CANL, 7 CANH, 8 NC_2

## TNPW06033K00BEEA
designator R?  (value not drawn)
Resistor; Manufacturer_Name: Vishay; Datasheet Link: http://www.vishay.com/docs/28758/tnpw_e3.pdf; Height: 0.55mm; Manufacturer_Part_Number: TNPW06033K00BEEA; Mouser Part Number: 71-TNPW06033K00BEEA; Mouser Price/Stock: https://www.mouser.co.uk/ProductDetail/Vishay-Dale/TNPW06033K00BEEA?qs=kHCK1FE53PnaIDT%252BQ71GHQ%3D%3D
footprint RESC1608X55N
pins: 1, 2

## TNPW0603100KBEEA
designator R?  (value not drawn)
Resistor; Manufacturer_Name: Vishay; Datasheet Link: https://datasheet.datasheetarchive.com/originals/distributors/DKDS41/DSANUWW0030147.pdf; Height: 0.55mm; Manufacturer_Part_Number: TNPW0603100KBEEA
footprint RESC1608X55N
pins: 1, 2

## XT60PW-M
designator J?
Connector; Manufacturer_Name: Changzou Amass Elec; Datasheet Link: https://www.tme.eu/Document/9b8d0c5eb7094295f3d3112c214d3ade/XT60PW%20SPEC.pdf; Height: 8.4mm; Manufacturer_Part_Number: XT60PW-M
footprint XT60PWM
pins: 1, 2, 3, 4